# EAGLE library part SIM_CARD_HOLDER (library pimoroni-connectors)
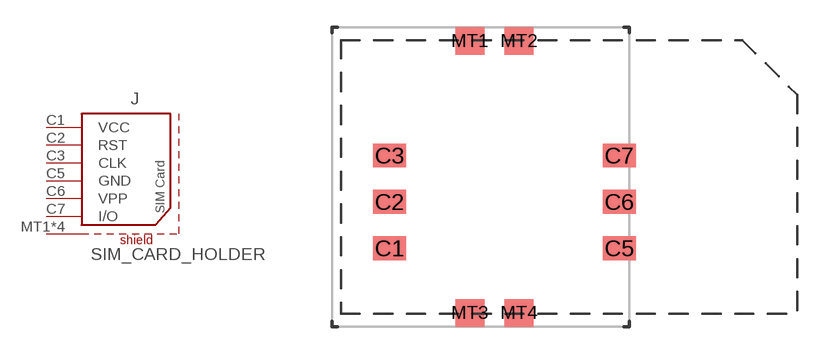
[diagram p35: symbol with the pads of MINI_SIM_HOLDER; footprint MINI_SIM_HOLDER]

Designator prefix J

## SIM_CARD_HOLDER  [MINI_SIM_HOLDER]
C1  VCC
C2  RST
C3  CLK
C5  GND
C6  VPP
C7  I/O
MT1  SHIELD
MT2  SHIELD
MT3  SHIELD
MT4  SHIELD

## Footprint MINI_SIM_HOLDER (pad centres in mm)
smd 1.8 x 1.3: C1 -6.3,-3.9; C2 -6.3,-1.36; C3 -6.3,1.18; C5 6.3,-3.9; C6 6.3,-1.36; C7 6.3,1.18
smd 1.6 x 1.5: MT1 -1.9,7.45; MT2 0.8,7.45; MT3 -1.9,-7.45; MT4 0.8,-7.45